# EAGLE library part JKD-MEGAMINI (library SSI)
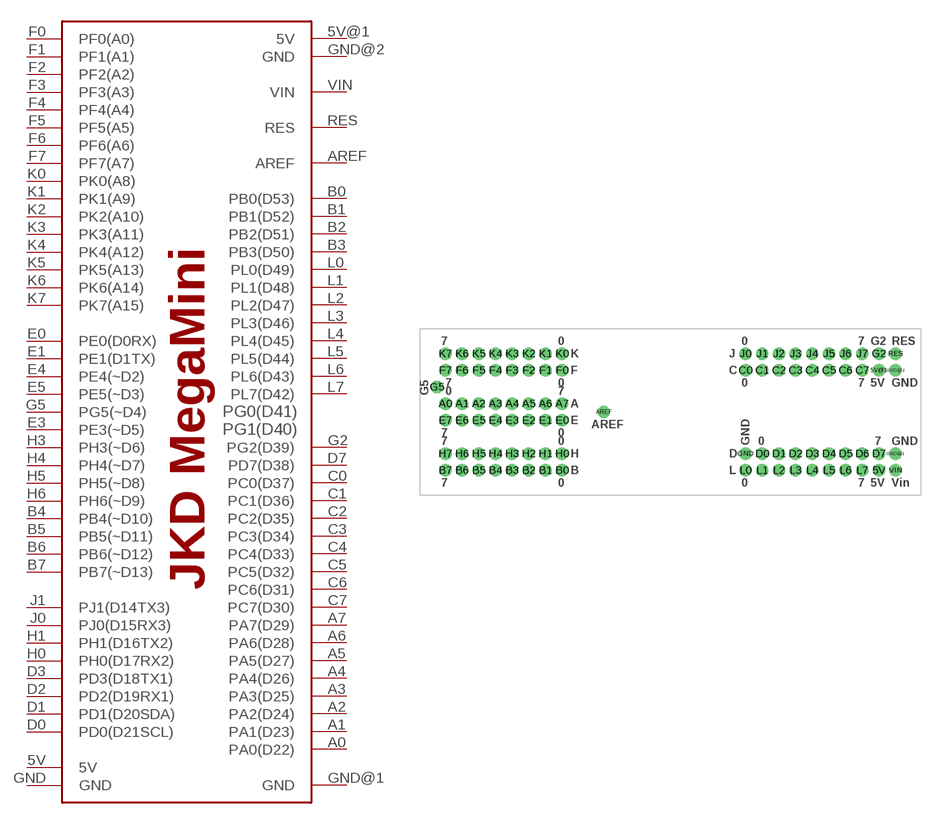
[diagram p11: symbol with the pads of JKD-MEGAMINI; footprint JKD-MEGAMINI]

Designator prefix -

## JKD-MEGAMINI  [JKD-MEGAMINI]
5V  5V
5V@1  5V
A0  PA0(D22)
A1  PA1(D23)
A2  PA2(D24)
A3  PA3(D25)
A4  PA4(D26)
A5  PA5(D27)
A6  PA6(D28)
A7  PA7(D29)
AREF  AREF
B0  PB0(D53)
B1  PB1(D52)
B2  PB2(D51)
B3  PB3(D50)
B4  PB4(~D10)
B5  PB5(~D11)
B6  PB6(~D12)
B7  PB7(~D13)
C0  PC0(D37)
C1  PC1(D36)
C2  PC2(D35)
C3  PC3(D34)
C4  PC4(D33)
C5  PC5(D32)
C6  PC6(D31)
C7  PC7(D30)
D0  PD0(D21SCL)
D1  PD1(D20SDA)
D2  PD2(D19RX1)
D3  PD3(D18TX1)
D7  PD7(D38)
E0  PE0(D0RX)
E1  PE1(D1TX)
E3  PE3(~D5)
E4  PE4(~D2)
E5  PE5(~D3)
F0  PF0(A0)
F1  PF1(A1)
F2  PF2(A2)
F3  PF3(A3)
F4  PF4(A4)
F5  PF5(A5)
F6  PF6(A6)
F7  PF7(A7)
G2  PG2(D39)
G5  PG5(~D4)
GND  GND
GND@1  GND
GND@2  GND
H0  PH0(D17RX2)
H1  PH1(D16TX2)
H3  PH3(~D6)
H4  PH4(~D7)
H5  PH5(~D8)
H6  PH6(~D9)
J0  PJ0(D15RX3)
J1  PJ1(D14TX3)
K0  PK0(A8)
K1  PK1(A9)
K2  PK2(A10)
K3  PK3(A11)
K4  PK4(A12)
K5  PK5(A13)
K6  PK6(A14)
K7  PK7(A15)
L0  PL0(D49)
L1  PL1(D48)
L2  PL2(D47)
L3  PL3(D46)
L4  PL4(D45)
L5  PL5(D44)
L6  PL6(D43)
L7  PL7(D42)
RES  RES
VIN  VIN

## Footprint JKD-MEGAMINI (pad centres in mm)
drill 1.016 pad 1.88: 5V 66.04,0; 5V@1 66.04,15.24; A0 0,10.16; A1 2.54,10.16; A2 5.08,10.16; A3 7.62,10.16; A4 10.16,10.16; A5 12.7,10.16; A6 15.24,10.16; A7 17.78,10.16; B0 17.78,0; B1 15.24,0; B2 12.7,0; B3 10.16,0; B4 7.62,0; B5 5.08,0; B6 2.54,0; B7 0,0; C0 45.72,15.24; C1 48.26,15.24; C2 50.8,15.24; C3 53.34,15.24; C4 55.88,15.24; C5 58.42,15.24; C6 60.96,15.24; C7 63.5,15.24; D0 48.26,2.54; D1 50.8,2.54; D2 53.34,2.54; D3 55.88,2.54; D4 58.42,2.54; D5 60.96,2.54; D6 63.5,2.54; D7 66.04,2.54; E0 17.78,7.62; E1 15.24,7.62; E2 12.7,7.62; E3 10.16,7.62; E4 7.62,7.62; E5 5.08,7.62; E6 2.54,7.62; E7 0,7.62; F0 17.78,15.24; F1 15.24,15.24; F2 12.7,15.24; F3 10.16,15.24; F4 7.62,15.24; F5 5.08,15.24; F6 2.54,15.24; F7 0,15.24; G2 66.04,17.78; GND 45.72,2.54; GND@1 68.58,2.54; GND@2 68.58,15.24; H0 17.78,2.54; H1 15.24,2.54; H2 12.7,2.54; H3 10.16,2.54; H4 7.62,2.54; H5 5.08,2.54; H6 2.54,2.54; H7 0,2.54; J0 45.72,17.78; J1 48.26,17.78; J2 50.8,17.78; J3 53.34,17.78; J4 55.88,17.78; J5 58.42,17.78; J6 60.96,17.78; J7 63.5,17.78; K0 17.78,17.78; K1 15.24,17.78; K2 12.7,17.78; K3 10.16,17.78; K4 7.62,17.78; K5 5.08,17.78; K6 2.54,17.78; K7 0,17.78; L0 45.72,0; L1 48.26,0; L2 50.8,0; L3 53.34,0; L4 55.88,0; L5 58.42,0; L6 60.96,0; L7 63.5,0; RES 68.58,17.78; VIN 68.58,0
drill 1.016 pad 1.88 octagon: AREF 24.13,8.89; G5 -1.27,12.7